# Altium footprint library v2.PcbLib: 10 footprints
Each footprint in its own frame and in the unit in brackets; x right, y up, seen from the top. Pads: shape width x height; smd on the part's side, far side on the other; paste and mask are expansions set on the pad; w line width, h text height; cw(c..) or ccw(c..) is an arc to the next point about the centre after c.
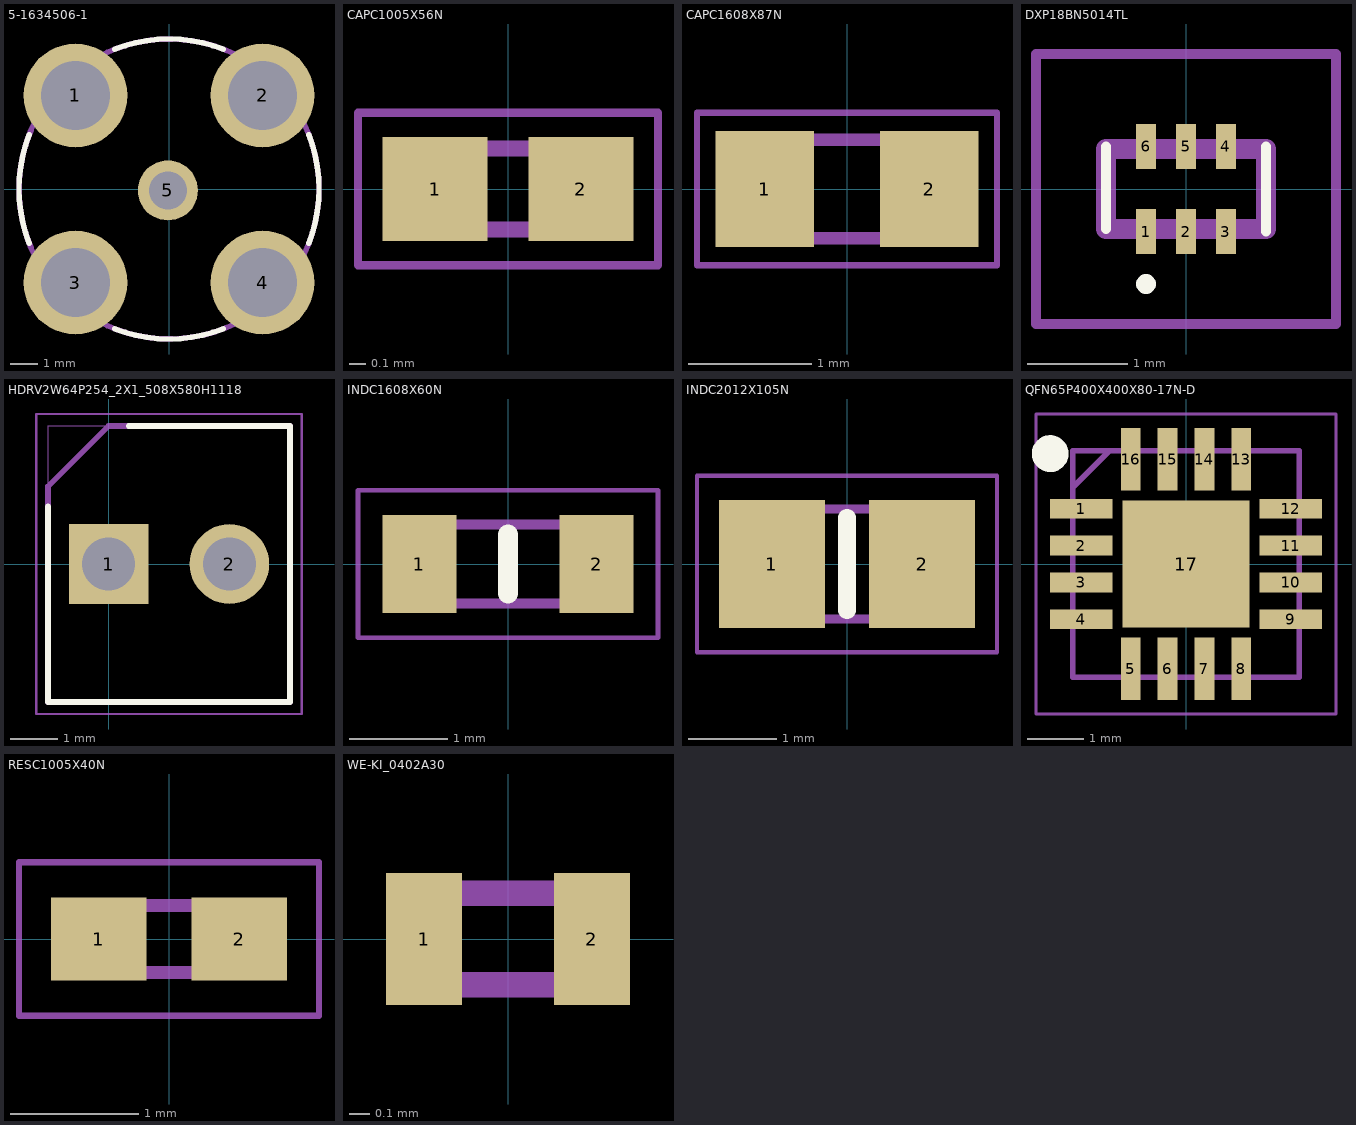
[diagram p0: the footprints below, top view; thin cyan lines are the x and y axes]

## 5-1634506-1 [mm]
pads (5):
  round 3.8 hole 2.52: 1(-3.43,3.43) 2(3.43,3.43) 3(-3.43,-3.43) 4(3.43,-3.43)
  round 2.2 hole 1.4: 5(-0.039,-0.054)
Top Overlay:
  lines w0.2: -5.124,-1.998 cw(c0,0) -5.124,1.998 ; -1.998,-5.124 ccw(c0,0) 1.998,-5.124 ; -1.998,5.124 cw(c0,0) 1.998,5.124 ; 5.124,-1.998 ccw(c0,0) 5.124,1.998
Mechanical 13:
  circle w0.2: c0,0 r5.5
3D body "5-1634506-1.stp": height 0, standoff -18.2, extent -5.5,-5.5 5.5,5.5

## CAPC1005X56N [mm]
pads (2):
  rect 0.65x0.64 smd: 1(-0.45,0) 2(0.45,0)
Mechanical 13:
  lines w0.1: -0.5,-0.25 -0.5,0.25 0.5,0.25 0.5,-0.25 -0.5,-0.25
Mechanical 15:
  lines w0.05: -0.925,-0.47 -0.925,0.47 0.925,0.47 0.925,-0.47 -0.925,-0.47
3D body "04025A6R8CAT2A.stp": height 0.56, standoff 0, extent -0.5,-0.25 0.5,0.25

## CAPC1608X87N [mm]
pads (2):
  rect 0.8x0.94 smd: 1(-0.67,0) 2(0.67,0)
Mechanical 13:
  lines w0.1: -0.8,-0.4 -0.8,0.4 0.8,0.4 0.8,-0.4 -0.8,-0.4
Mechanical 15:
  lines w0.05: -1.22,-0.62 -1.22,0.62 1.22,0.62 1.22,-0.62 -1.22,-0.62
3D body "885012206052.stp": height 0.87, standoff 0, extent -0.8,-0.4 0.8,0.4

## DXP18BN5014TL [mm]
pads (6):
  rect 0.2x0.45 smd: 1(-0.4,-0.425) 2(0,-0.425) 3(0.4,-0.425) 4(0.4,0.425) 5(0,0.425) 6(-0.4,0.425)
Top Overlay:
  lines w0.1: -0.8,-0.4 -0.8,0.425 ; 0.8,-0.425 0.8,0.425 ; -0.4,-1 cw(c-0.4,-0.95) -0.4,-0.9 cw(c-0.4,-0.95) -0.4,-1
Mechanical 13:
  lines w0.2: -0.8,-0.4 0.8,-0.4 0.8,0.4 -0.8,0.4 -0.8,-0.4
Mechanical 15:
  lines w0.1: -1.5,-1.35 1.5,-1.35 1.5,1.35 -1.5,1.35 -1.5,-1.35
3D body "DXP18BN5014TL.stp": height 0.65, standoff 0, extent -0.8,-0.63 0.8,0.63

## HDRV2W64P254_2X1_508X580H1118 [mm]
pads (2):
  rect 1.67x1.67 hole 1.11: 1(0,0)
  round 1.67 hole 1.11: 2(2.54,0)
Top Overlay:
  lines w0.12: -1.27,1.207 -1.27,-2.9 3.81,-2.9 3.81,2.9 0.423,2.9
Mechanical 13:
  lines w0.12: -1.27,-2.9 -1.27,1.63 0,2.9 3.81,2.9 3.81,-2.9 -1.27,-2.9
Mechanical 15:
  circle w0.05: c0,0 r0.25
  lines w0.01: -1.27,-2.9 -1.27,2.9 3.81,2.9 3.81,-2.9 -1.27,-2.9
  lines w0.05: -0.35,0 0.35,0 ; 0,-0.35 0,0.35 ; -1.52,-3.15 -1.52,3.15 4.06,3.15 4.06,-3.15 -1.52,-3.15
3D body "22-27-2021.stp": height 2.9, standoff -2.9, extent -2.54,-5.14 2.54,10.12

## INDC1608X60N [mm]
pads (2):
  rect 0.75x1 smd: 1(-0.9,0) 2(0.9,0)
Top Overlay:
  lines w0.2: 0,-0.3 0,0.3
Mechanical 13:
  lines w0.1: -0.8,-0.4 0.8,-0.4 0.8,0.4 -0.8,0.4 -0.8,-0.4
Mechanical 15:
  lines w0.05: -1.525,-0.75 1.525,-0.75 1.525,0.75 -1.525,0.75 -1.525,-0.75
3D body "LQP18MN47NG02D.stp": height 0.6, standoff 0, extent -0.8,-0.4 0.8,0.4

## INDC2012X105N [mm]
pads (2):
  rect 1.2x1.45 smd: 1(-0.85,0) 2(0.85,0)
Top Overlay:
  lines w0.2: 0,-0.525 0,0.525
Mechanical 13:
  lines w0.1: -1,-0.625 1,-0.625 1,0.625 -1,0.625 -1,-0.625
Mechanical 15:
  lines w0.05: -1.7,-1 1.7,-1 1.7,1 -1.7,1 -1.7,-1
3D body "LQM21NNR22K10D.stp": height 1.05, standoff 0, extent -1,-0.625 1,0.625

## QFN65P400X400X80-17N-D [mm]
pads (17):
  rect 1.1x0.35 smd: 1(-1.85,0.975) 2(-1.85,0.325) 3(-1.85,-0.325) 4(-1.85,-0.975) 9(1.85,-0.975) 10(1.85,-0.325) 11(1.85,0.325) 12(1.85,0.975)
  rect 0.35x1.1 smd: 5(-0.975,-1.85) 6(-0.325,-1.85) 7(0.325,-1.85) 8(0.975,-1.85) 13(0.975,1.85) 14(0.325,1.85) 15(-0.325,1.85) 16(-0.975,1.85)
  rect 2.25x2.25 smd: 17(0,0)
Top Overlay:
  circle w0.325: c-2.401,1.95 r0.162
Mechanical 13:
  lines w0.1: -2,1.35 -1.35,2 ; -2,-2 -2,2 2,2 2,-2 -2,-2
Mechanical 15:
  lines w0.05: -2.65,-2.65 -2.65,2.65 2.65,2.65 2.65,-2.65 -2.65,-2.65
3D body "LT5512EUF#PBF.stp": height 0.8, standoff 0, extent -2.05,-2.05 2.05,2.05

## RESC1005X40N [mm]
pads (2):
  rect 0.75x0.65 smd: 1(-0.55,0) 2(0.55,0)
Mechanical 13:
  lines w0.1: -0.5,-0.262 -0.5,0.262 0.5,0.262 0.5,-0.262 -0.5,-0.262
Mechanical 15:
  lines w0.05: -1.175,-0.6 -1.175,0.6 1.175,0.6 1.175,-0.6 -1.175,-0.6
3D body "ERA2AEB101X.stp": height 0.4, standoff 0, extent -0.5,-0.262 0.5,0.262

## WE-KI_0402A30 [mm]
pads (2):
  rect 0.375x0.65 smd: 1(-0.413,0) 2(0.413,0)
Mechanical 13:
  lines w0.127: -0.5,-0.225 -0.5,0.225 0.5,0.225 0.5,-0.225 -0.5,-0.225